# Altium integrated library Displays.IntLib: 1 symbol
Pins are listed as number, name and electrical type; pins without a type are passive.

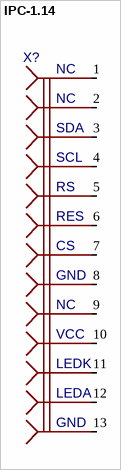
[diagram p0: symbol IPC-1.14]

## IPC-1.14
designator X?  (value not drawn)
footprint 144-IPS (1.44 TFT IPS)
pins: 1 VBUS, 2 D-, 3 D+, 4 ID, 5 GND, 6 SHIELD, 7 SHIELD, 8 SHIELD, 9 SHIELD, 10 SHIELD, 11 SHIELD, 12 SHIELD, 13 SHIELD
text: NC; SDA; SCL; RS; RES; CS; VCC; LEDK; LEDA